# Altium schematic symbol library switch_1.SCHLIB: 27 symbols
Pins are listed as number, name and electrical type; pins without a type are passive.

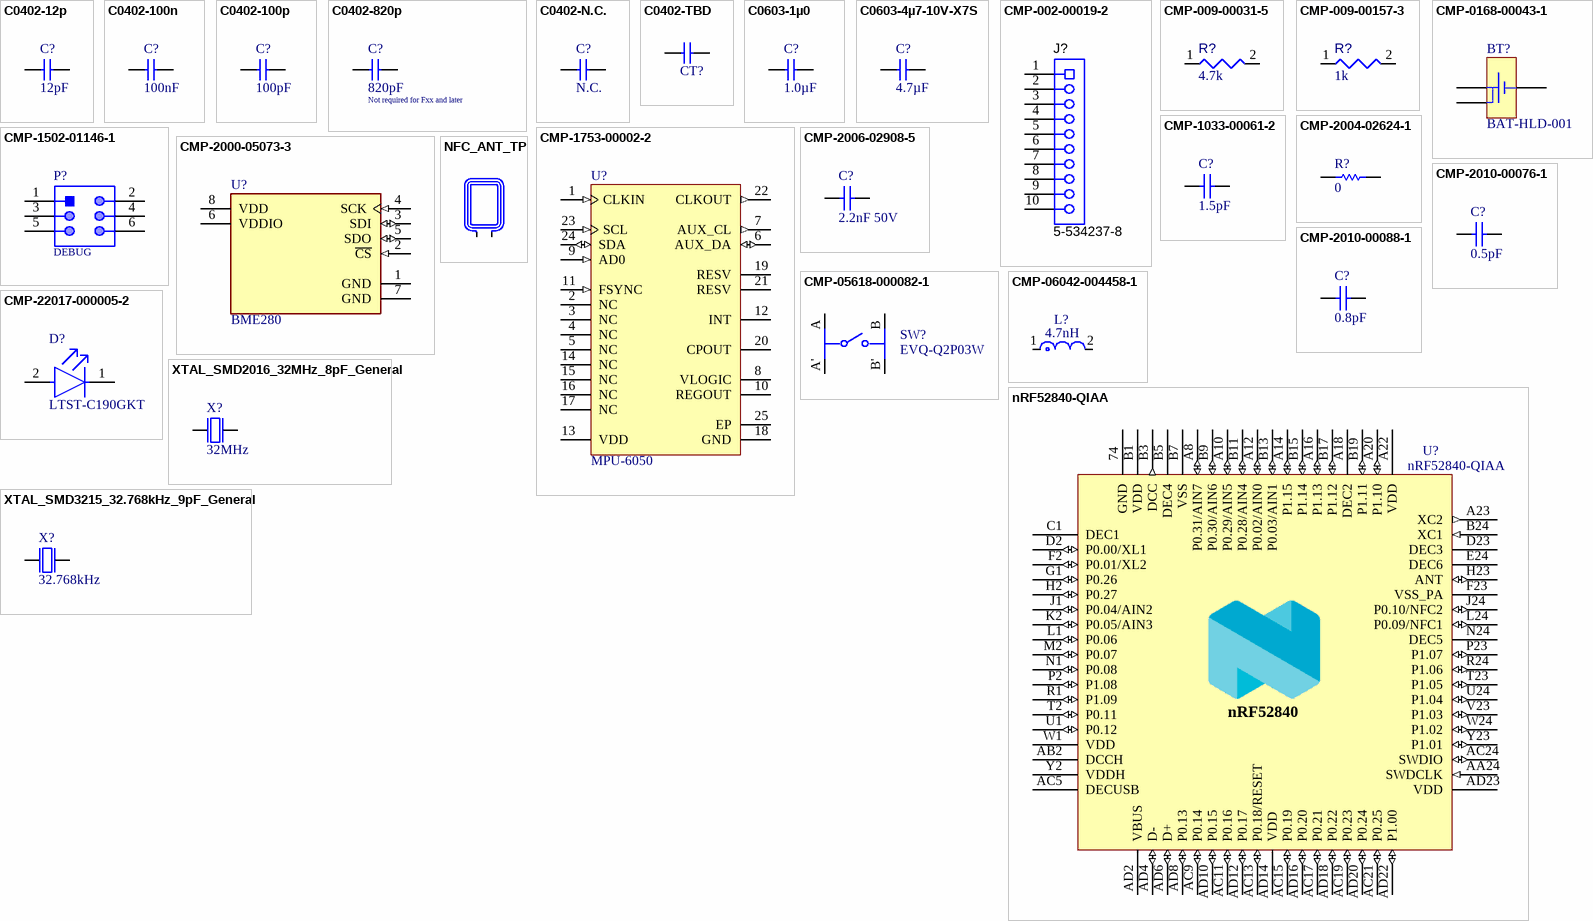
[diagram p0: symbols C0402-12p to XTAL_SMD3215_32.768kHz_9pF_General]

## C0402-12p
designator C?, comment 12pF
Capacitor, NP0, ±2%; Part Number: C0402-12p; Pad Count: 2; LatestRevisionDate: 2011-05-11; Published: 2009-05-08; Value: 12pF; Footprint Doc: 0402
footprint CAPC1005X04L
pins: 1, 2

## C0402-100n
designator C?, comment 100nF
Capacitor, X7R, ±10%; Part Number: C0402-100n; Pad Count: 2; LatestRevisionDate: 2009-11-23; Published: 2009-05-08; Value: 100nF; Footprint Doc: 0402
footprint CAPC1005X04L
pins: 1, 2

## C0402-100p
designator C?, comment 100pF
Capacitor, NP0, ±5%; Part Number: C0402-100p; Pad Count: 2; LatestRevisionDate: 2009-05-08; Published: 2009-05-08; Value: 100pF; Footprint Doc: 0402
footprint CAPC1005X04L
pins: 1, 2

## C0402-820p
designator C?, comment 820pF  Assembly: Not required for Fxx and later
Capacitor, NP0, ±5%; Part Number: C0402-820p; Pad Count: 2; LatestRevisionDate: 2009-05-08; Published: 2009-05-08; Value: 820pF; Footprint Doc: 0402
footprint CAPC1005X04L
pins: 1, 2

## C0402-N.C.
designator C?, comment N.C.
Not mounted; Part Number: C0402-N.C.; Pad Count: 2; Assembly: Not mounted; LatestRevisionDate: 2009-05-08; Published: 2009-05-08; Value: N.C.; Footprint Doc: 0402
footprint CAPC1005X04L
pins: 1, 2

## C0402-TBD
designator CT?, comment Antenna dependent  (value not drawn)
Capacitor, NP0, ±5%; Part Number: C0402-TBD; Pad Count: 2; Footprint Doc: 0402; LatestRevisionDate: 2010-12-21; Published: 2010-12-21; Value: Antenna dependent
footprint CAPC1005X04L
pins: 1, 2

## C0603-1µ0
designator C?, comment 1.0µF
Capacitor, X7R, ±10%; Part Number: C0603-1µ0; Pad Count: 2; LatestRevisionDate: 2013-06-05; Published: 2009-05-08; Value: 1.0µF; Footprint Doc: 0603
footprint CAPC1608X06L
pins: 1, 2

## C0603-4µ7-10V-X7S
designator C?, comment 4.7µF
Capacitor, X7S, ±10%; Part Number: C0603-4µ7-10V-X7S; Pad Count: 2; LatestRevisionDate: 2016-08-15; Published: 2016-08-15; Value: 4.7µF; Footprint Doc: 0603
footprint CAPC1608X06L
pins: 1, 2

## CMP-002-00019-2
designator J?, comment 5-534237-8
Female Receptacle, Pitch 2.54 mm, 1 x 10 Position, Height 8.64 mm, Tail Length 2.92 mm, -65 to 105 degC, RoHS, Tube; Manufacturer: TE Connectivity; Max Contact Resistance: 12mohm; Connector Type: Header; Current Rating: 2A; Voltage Rating: 750V; Rows: 1; Datasheet Version: Apr-13; Contact Plating: Gold; Min Operating Temperature: -65°C; Manufacturer URL: http://www.te.com/; Mounting Technology: TH; Contact Material: Bronze; RoHS Compliant: True; Packaging: Rail/Tube; Contact Finish: Gold; Pins: 10; Case/Package: 5-534237-8; Max Operating Temperature: 105°C; Lead Pitch: 2.54mm; Gender: Female; Package Quantity: 22; Colour: Black; Package Description: Female Receptacle, Pitch 2.54 mm, 1 x 10 Position, Height 8.64 mm, Tail Length 2.92 mm; Package Reference: 5-534237-8; Datasheet URL: http://www.te.com/commerce/DocumentDelivery/DDEController?Action=showdoc&DocId=Customer+Drawing%7F534237%7FR5%7Fpdf%7FEnglish%7FENG_CD_534237_R5.pdf%7F5-534237-8; Manufacturer Part Number: 5-534237-8; Component Type: Connectors
footprint TECO-5-534237-8_V (Receptacle, 10-Leads, Body 25.4x3.56mm, Pitch 2.54mm)
pins: 1, 2, 3, 4, 5, 6, 7, 8, 9, 10

## CMP-009-00031-5
designator R?, comment value 4.7k  (hidden comment: Resistor 4k7 +/-1% 0603 100 mW)
Chip Resistor, 4.7 KOhm, +/- 1%, 0.1 W, -55 to 155 degC, 0603 (1608 Metric); Manufacturer: Yageo; Manufacturer Part Number: RC0603FR-134K7L; Manufacturer: Vishay; Manufacturer Part Number: CRCW06034K70FKEA; Manufacturer: Panasonic; Manufacturer Part Number: ERJ-3EKF4701V; Power: 100mW; Tolerance: 1%; Mounting Technology: SM; Case/Package: 0603; RoHS Compliant: True; Pins: 2; Min Operating Temperature: -55°C; Max Operating Temperature: 155°C; Component Type: Resistors
footprint RESC1608X55X25ML10T15 (Chip Resistor, 2-Leads, Body 1.70x0.90mm, IPC Low Density)
footprint RESC1608X55X25NL10T15 (Chip Resistor, 2-Leads, Body 1.70x0.90mm, IPC Medium Density)
footprint RESC1608X55X25LL10T15 (Chip Resistor, 2-Leads, Body 1.70x0.90mm, IPC High Density)
pins: 1, 2
1 alternate drawing of the same symbol

## CMP-009-00157-3
designator R?, comment value 1k  (hidden comment: Resistor 1K +/-5 % 0402 63 mW)
Chip Resistor, 1 kOhms, +/-5 %, 63 mW, -55 to 155 degC, 0402; Manufacturer: Vishay Dale; Manufacturer Part Number: CRCW04021K00JNED; Manufacturer Part Number: CRCW04021K00JNTE; Manufacturer Part Number: CRCW04021K00JNTD; Manufacturer Part Number: CRCW04021K00JNEE; Manufacturer: Panasonic; Manufacturer Part Number: ERJ-2GEJ102X; Manufacturer: Bourns; Manufacturer Part Number: CR0402-JW-102GLF; Manufacturer: Yageo; Manufacturer Part Number: RC0402JR-071KL; Tolerance: 5%; Power: 63mW; Case/Package: 0402; Pins: 2; Min Operating Temperature: -55°C; Max Operating Temperature: 155°C; Component Type: Resistors
footprint RESC0402(1005)_L (Chip Resistor, Body 1.0x0.5mm, IPC High Density)
pins: 1, 2
1 alternate drawing of the same symbol

## CMP-0168-00043-1
designator BT?, comment BAT-HLD-001
20mm Coin Cell Battery Holder; Manufacturer: Linx; PCB_Layout: Complies with manufacturer's recommendation.; DatasheetVersion: rev1.0, Dec-2007; PackageVersion: rev1.0, Dec-2007; PackageReference: BATHLD-001; PackageDescription: Low Profile SM Battery Holder, 20mm Lithium Cell, 21.1 x 15.3 x 4.2 mm Body; Manufacturer Part Number: BAT-HLD-001
footprint BATHLD-001 (Battery Holder, SM, 20mm Coin Cell, Body 21.1x15.3x4.2mm)
pins: 1 -, 2 +, 3 +

## CMP-1033-00061-2
designator C?, comment 1.5pF
Part Number: 02013A1R5CAT2A; Manufacturer: AVX Interconnect / Elco; Manufacturer: TDK; Manufacturer Part Number: C0603C0G1E1R5C; Manufacturer: Kyocera AVX; Manufacturer: Vishay Vitramon; Manufacturer Part Number: VJ0201A1R5CXXCW1BC; Manufacturer: AVX; Manufacturer Part Number: 02013A1R5CAT4A; Manufacturer Part Number: 02013A1R5CAT2A
footprint CAPC0603X33X15NL03T05 (Chip Capacitor, 2-Leads, Body 0.60x0.30mm, IPC Medium Density)
footprint CAPC0603X33X15LL03T05 (Chip Capacitor, 2-Leads, Body 0.60x0.30mm, IPC High Density)
footprint CAPC0603X33X15ML03T05 (Chip Capacitor, 2-Leads, Body 0.60x0.30mm, IPC Low Density)
pins: 1, 2
1 alternate drawing of the same symbol

## CMP-1502-01146-1
designator P?, comment DEBUG
SMT Angled Pin Header WR-PHD, Pitch 2.54 mm, Dual Row, 6 pins; Manufacturer: Wurth Elektronik; Part Number: 610106249121; Manufacturer: Wurth Electronics; Contact Resistance: 20mOhm; Gender: Male; Withstanding Voltage: 600VAC; Working Voltage: 250VAC; Rated Current: 3A; Pitch: 2.54mm; Pin Number: 6; Package Reference: 610106249121; Mounting Technology: SMT; Row Number: Dual; Manufacturer URL: http://www.we-online.de; Operating Temperature: -40to105degC; Publisher: WurthElektronik; Datasheet URL: https://katalog.we-online.de/em/datasheet/6101xx249121.pdf; Packaging: TapeandReel; Orientation: Angled; Manufacturer Part Number: 610106249121
footprint 610106249121 (Pin Header, pitch 2.54 mm, SMD, Angled, dual row, 6p)
pins: 1, 2, 3, 4, 5, 6

## CMP-1753-00002-2
designator U?, comment MPU-6050
3-Axis Gyroscope, Accelerometer and a Digital Motion Processor(TM) (DMP), 2.375 to 3.46 V, -40 to 85 degC, 24-Pin QFN, RoHS, Tape and Reel; Manufacturer: InvenSense; Manufacturer: TDK InvenSense; Featured Product: MPU-60506-Axis,IntegratedI²CSolution; Other Names: 1428-1007-2 / MPU6050; Sensor Type: MotionTracking; Online Catalog: MPU-6000™Series; Unit PriceUSD: Digital; Datasheet Version: Rev. 3.3, 05/2012; Category: Sensors,Transducers; Datasheet URL: http://datasheet.octopart.com/MPU-6050-InvenSense-datasheet-14421344.pdf; Family: Multifunction; Standard Package: 5,000; Manufacturer URL: http://www.invensense.com/; Output Type: Digital; Dynamic Catalog: MPU-6000™Series; Manufacturer Part Number: MPU-6050
footprint IS-QFN-24_V (QFN, 24-Leads, Body 4x4mm, Pitch 0.5mm, Thermal Pad 2.7x2.6mm)
pins: 1 CLKIN (in) "Optional external reference clock input. Connect to GND if unused.", 2 NC "Not internally connected. May be used for PCB trace routing", 3 NC "Not internally connected. May be used for PCB trace routing", 4 NC "Not internally connected. May be used for PCB trace routing", 5 NC "Not internally connected. May be used for PCB trace routing", 6 AUX_DA (io) "I2C master serial data, for connecting to external sensors", 7 AUX_CL (out) "I2C Master serial clock, for connecting to external sensors", 8 VLOGIC (power) "Digital I/O supply voltage", 9 AD0 (in) "I2C Slave Address LSB (AD0)", 10 REGOUT "Regulator filter capacitor connection", 11 FSYNC (in) "Frame synchronization digital input. Connect to GND if unused.", 12 INT (oc) "Interrupt digital output (totem pole or open-drain)", 13 VDD (power) "Power supply voltage and Digital I/O supply voltage", 14 NC "Not internally connected. May be used for PCB trace routing", 15 NC "Not internally connected. May be used for PCB trace routing", 16 NC "Not internally connected. May be used for PCB trace routing", 17 NC "Not internally connected. May be used for PCB trace routing", 18 GND (power) "Power supply ground", 19 RESV "Reserved. Do not connect", 20 CPOUT "Charge pump capacitor connection", 21 RESV "Reserved. Do not connect", 22 CLKOUT (out) "System clock output", 23 SCL (in) "System clock output  I2C serial clock (SCL)", 24 SDA (io) "I2C serial data (SDA)", 25 EP (power) "Exposed Pad"

## CMP-2000-05073-3
designator U?, comment BME280
SENSOR PRESSURE HUMIDITY TEMP; Manufacturer: Bosch; Sensor Type: Temperature; Accuracy: 3%; Response Time: 1s; Output Type: SPI; Min Operating Temperature: -40°C; Max Operating Temperature: 85°C; Case/Package: LGA; Packaging: Cut Tape; Mount: Surface Mount; Lead Free: Lead Free; Number of Pins: 8; Manufacturer Part Number: BME280
footprint FP-BME280-MFG
pins: 1 GND (power), 2 ~{CS} (in), 3 SDI (io), 4 SCK (in), 5 SDO (io), 6 VDDIO (power), 7 GND (power), 8 VDD (power)

## CMP-2004-02624-1
designator R?, comment 0
ERJ-1GE0R00C; Manufacturer: Panasonic; Part Number: ERJ-1GE0R00C; Manufacturer Part Number: ERJ-1GE0R00C
footprint RESC0603X26X15LL03T05 (Chip Resistor, 2-Leads, Body 0.60x0.30mm, IPC High Density)
footprint RESC0603X26X15ML03T05 (Chip Resistor, 2-Leads, Body 0.60x0.30mm, IPC Low Density)
footprint RESC0603X26X15NL03T05 (Chip Resistor, 2-Leads, Body 0.60x0.30mm, IPC Medium Density)
pins: 1, 2
1 alternate drawing of the same symbol

## CMP-2006-02908-5
designator C?, comment 2.2nF 50V
Chip Capacitor, 2.2 nF, +/- 10%, 50 V, -55 to 125 degC, 0603 (1608 Metric), RoHS, Tape and Reel; Manufacturer: Murata; Manufacturer Part Number: GRM188R71H222KA01D; Pins: 2; Mount: Surface Mount; Max Operating Temperature: 125 degC; ComponentLink1Description: Manufacturer URL; RoHSCompliant: true; PackageDescription: 2-Pin Surface Mount Device, Body 1.6 x 0.8 mm; ComponentLink2URL: http://search.murata.co.jp/Ceramy/image/img/A01X/G101/ENG/GRM188R71H222KA01-01.pdf; PackageReference: 0603; Height: 0.8 mm; Lead Pitch: 4 mm; Packaging: Tape and Reel; DatasheetVersion: 02/2016; Mounting Technology: Surface Mount; ComponentLink2Description: Datasheet; Min Operating Temperature: -55 degC; Voltage Rating: 50 V; Length: 1.6 mm; REACH SVHC: No SVHC; Package Quantity: 4000; ComponentLink1URL: http://www.murata.com/
footprint CAPC1608X90X35NL10T15 (Chip Capacitor, 2-Leads, Body 1.7x0.9mm, IPC Medium Density)
footprint CAPC1608X90X35ML10T15 (Chip Capacitor, 2-Leads, Body 1.7x0.9mm, IPC Low Density)
footprint CAPC1608X90X35LL10T15 (Chip Capacitor, 2-Leads, Body 1.7x0.9mm, IPC High Density)
pins: 1, 2

## CMP-2010-00076-1
designator C?, comment 0.5pF
02013J0R5PBSTR; Manufacturer: AVX Interconnect / Elco; Manufacturer: Kyocera AVX; Part Number: 02013J0R5PBSTR; Manufacturer Part Number: 02013J0R5PBSTR
footprint CAPC0603X28X15NL05T05 (Chip Capacitor, 2-Leads, Body 0.60x0.33mm, IPC Medium Density)
footprint CAPC0603X28X15LL05T05 (Chip Capacitor, 2-Leads, Body 0.60x0.33mm, IPC High Density)
footprint CAPC0603X28X15ML05T05 (Chip Capacitor, 2-Leads, Body 0.60x0.33mm, IPC Low Density)
pins: 1, 2
1 alternate drawing of the same symbol

## CMP-2010-00088-1
designator C?, comment 0.8pF
02013J0R8PBWTR; Manufacturer: AVX Interconnect / Elco; Manufacturer: Kyocera AVX; Part Number: 02013J0R8PBWTR; Manufacturer Part Number: 02013J0R8PBWTR
footprint CAPC0603X28X15NL05T05 (Chip Capacitor, 2-Leads, Body 0.60x0.33mm, IPC Medium Density)
footprint CAPC0603X28X15ML05T05 (Chip Capacitor, 2-Leads, Body 0.60x0.33mm, IPC Low Density)
footprint CAPC0603X28X15LL05T05 (Chip Capacitor, 2-Leads, Body 0.60x0.33mm, IPC High Density)
pins: 1, 2
1 alternate drawing of the same symbol

## CMP-05618-000082-1
designator SW?, comment EVQ-Q2P03W
SWITCH TACTILE SPST-NO 0.02A 15V; Manufacturer: Panasonic; Voltage Rating (AC): 250V; Operating Force: 1.6N; Actuator Length: 1.3mm; Actuator Type: Standard; Contact Current Rating: 20mA; Illumination Type: Non-Illuminated; Contact Resistance: 100mR; Actuator Color: White; Electrical Life: 1000000Cycles; Body Depth: 6mm; Switch Function: Off-Mom; Switch Travel: 0.25mm; Throw Configuration: SPST; Number of Poles: 1; Mount: Surface Mount; Case/Package: SMD/SMT; Packaging: Tape and Reel; Package Quantity: 1; Depth: 6.6mm; Max Operating Temperature: 85°C; Thickness: 1.8mm; Size: 1.8mm; Series: EVQQ2; Width: 6.5mm; Voltage Rating (DC): 15V; Termination: SMD/SMT; Length: 6mm; Lead Free: Lead Free; Orientation: Straight; Current Rating: 20mA; Max Current Rating: 20mA; Height: 3.1mm; Radiation Hardening: No; Mechanical Life: 1000000Cycles; Min Operating Temperature: -40°C; Max Voltage Rating (DC): 15V; Color: White; Manufacturer Part Number: EVQ-Q2P03W
footprint FP-EVQ-Q2P03W-MFG
pins: A, A', B, B'

## CMP-06042-004458-1
designator L?, comment 4.7nH
Film type RF Inductor 4.7nH ±3% 350mA 0.4Ω 0201 (0603); Manufacturer: Murata; Manufacturer Part Number: LQP03TN4N7H02D; Self Resonant Frequency: 4.4GHz; DC Resistance (DCR): 400mR; Test Frequency: 500MHz; Shielding: Unshielded; Q Factor: 14; Core Material: Non-Magnetic; DC Current: 350mA; Height: 0.3mm; Width: 0.3mm; Package Quantity: 15000; Depth: 0.33mm; Min Operating Temperature: -55°C; Inductance: 4.7nH; Packaging: Tape and Reel; Case Code (Imperial): 0201; Tolerance: 3%; Termination: SMD/SMT; Resistor Type: Thin Film; Lead Free: Lead Free; Current Rating: 350mA; Case Code (Metric): 0603; Mount: Surface Mount; Radiation Hardening: No; Military Standard: Not; Length: 0.024inch; Case/Package: 0201; Max Operating Temperature: 125°C; Max DC Current: 350mA; Height - Seated (Max): 0.013inch
footprint FP-LQP03TG_02-IPC_B
footprint FP-LQP03TG_02-IPC_C
footprint FP-LQP03TG_02-MFG
footprint FP-LQP03TG_02-IPC_A
pins: 1, 2

## CMP-22017-000005-2
designator D?, comment LTST-C190GKT
LED GREEN CLEAR CHIP SMD; Manufacturer: Vishay Lite-On; Dominant Wavelength: 569nm; Reverse Voltage: 5V; Lens Color: Colorless; Viewing Angle: 130°; Voltage: 2V; Forward Current: 30mA; Power Dissipation: 100mW; Luminous Intensity: 6mcd; Number of LEDs: 1; Forward Voltage: 2.1V; Wavelength: 565nm; Test Current: 10mA; Min Operating Temperature: -55°C; Lens Style: Clear; Mount: Surface Mount; Width: 0.8mm; Packaging: Tape and Reel; Lens Transparency: Clear; Case Code (Metric): 1608; Depth: 0.8mm; Case Code (Imperial): 0603; Case/Package: 0603; Number of Pins: 2; Max Operating Temperature: 85°C; Lead Free: Lead Free; Number of Elements: 1; Length: 1.6mm; Height: 0.8mm; Package Quantity: 1; Power Rating: 100mW; Radiation Hardening: No; Illumination Color: Green; Color: Green; Manufacturer Part Number: LTST-C190GKT
footprint FP-LTST-C190GKT-MFG
pins: 1 C, 2 A

## NFC_ANT_TP
designator A?, comment NFC Antenna  (value not drawn)  (no BOM)
Part Number: NFC_ANT_TP; Pad Count: 2; Footprint Doc: TP_2x1mm_TH; LatestRevisionDate: 2016-02-23; Published: 2016-02-23; Value: NFC Antenna
footprint TP_2x1mm_TH
pins: 1, 2

## nRF52840-QIAA
designator U?
Multi-protocol Bluetooth Low Energy, IEEE 802.15.4, ANT and 2.4GHz proprietary system-on-chip; Pad Count: 73; Part Number: nRF52840-QIAA; LatestRevisionDate: 2017-08-21; Published: 2017-08-21; Value: nRF52840-QIAA; Footprint Doc: AQFN-73
footprint AQFN50P700X700X85_HS-74N
pins: 74 GND (power), A8 P0.31/AIN7 (io), A10 P0.29/AIN5 (io), A12 P0.02/AIN0 (io), A14 P1.15 (io), A16 P1.13 (io), A18 DEC2 (power), A20 P1.10 (io), A22 VDD (power), A23 XC2 (out), AA24 SWDCLK (in), AB2 DCCH (power), AC5 DECUSB (power), AC9 P0.14 (io), AC11 P0.16 (io), AC13 P0.18/RESET (io), AC15 P0.19 (io), AC17 P0.21 (io), AC19 P0.23 (io), AC21 P0.25 (io), AC24 SWDIO (io), AD2 VBUS (power), AD4 D- (io), AD6 D+ (io), AD8 P0.13 (io), AD10 P0.15 (io), AD12 P0.17 (io), AD14 VDD (power), AD16 P0.20 (io), AD18 P0.22 (io), AD20 P0.24 (io), AD22 P1.00 (io), AD23 VDD (power), B1 VDD (power), B3 DCC (out), B5 DEC4 (power), B7 VSS (power), B9 P0.30/AIN6 (io), B11 P0.28/AIN4 (io), B13 P0.03/AIN1 (io), B15 P1.14 (io), B17 P1.12 (io), B19 P1.11 (io), B24 XC1 (in), C1 DEC1 (power), D2 P0.00/XL1 (io), D23 DEC3 (power), E24 DEC6 (power), F2 P0.01/XL2 (io), F23 VSS_PA (power), G1 P0.26 (io), H2 P0.27 (io), H23 ANT (io), J1 P0.04/AIN2 (io), J24 P0.10/NFC2 (io), K2 P0.05/AIN3 (io), L1 P0.06 (io), L24 P0.09/NFC1 (io), M2 P0.07 (io), N1 P0.08 (io), N24 DEC5 (power), P2 P1.08 (io), P23 P1.07 (io), R1 P1.09 (io), R24 P1.06 (io), T2 P0.11 (io), T23 P1.05 (io), U1 P0.12 (io), U24 P1.04 (io), V23 P1.03 (io), W1 VDD (power), W24 P1.02 (io), Y2 VDDH (power), Y23 P1.01 (io)
text: nRF52840

## XTAL_SMD2016_32MHz_8pF_General
designator X?, comment 32MHz
XTAL SMD 2016, 32MHz, Cl=8pF, Total Tol: ±40ppm; Part Number: XTAL_SMD2016_32MHz_8pF_General; Pad Count: 4; LatestRevisionDate: 2016-08-19; Published: 2016-08-19; Value: 32MHz; Footprint Doc: XTAL_2016
footprint BT-XTAL_2016
pins: 1 inp, 2 GND hidden to GND, 3 out, 4 GND hidden to GND

## XTAL_SMD3215_32.768kHz_9pF_General
designator X?, comment 32.768kHz
XTAL SMD 3215, 32.768kHz, Cl=9pF, Total Tol: ±50ppm; Part Number: XTAL_SMD3215_32.768kHz_9pF_General; Pad Count: 2; LatestRevisionDate: 2016-08-19; Published: 2016-08-19; Value: 32.768kHz; Footprint Doc: XTAL_3215
footprint XTAL_3215
pins: 1 inp, 2 out